# EAGLE library part 6551 (library Ketturi electronics)
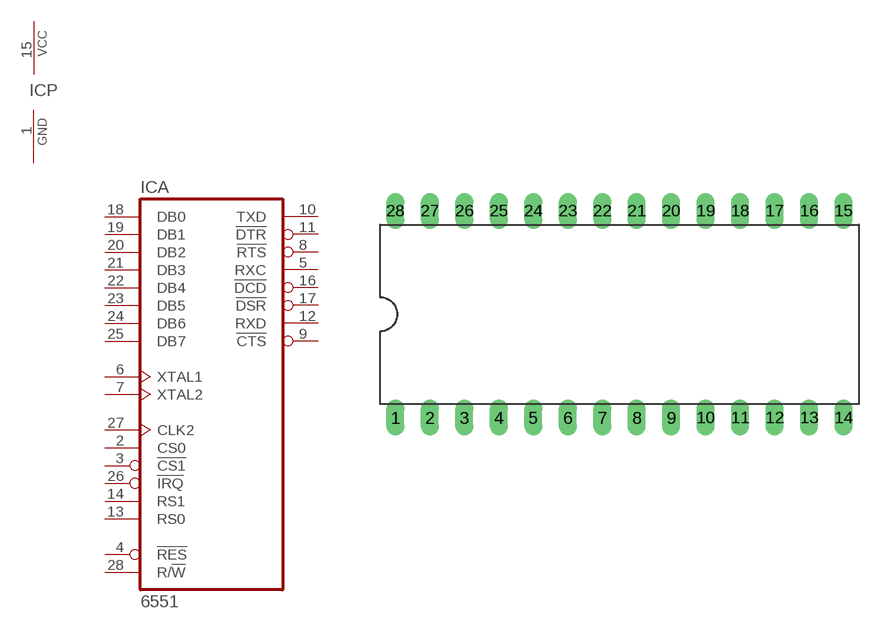
[diagram p14: symbol with the pads of DIL28-6; footprint DIL28-6]

Designator prefix IC; gates A=6551 P=PWRN-1

## 6551DIL28-6  [DIL28-6]
1  P:GND  pwr
2  A:CS0  in
3  A:!CS1  in
4  A:!RES  in
5  A:RXC  out
6  A:XTAL1  in
7  A:XTAL2  in
8  A:!RTS  out
9  A:!CTS  in
10  A:TXD  out
11  A:!DTR  out
12  A:RXD  in
13  A:RS0  in
14  A:RS1  in
15  P:VCC  pwr
16  A:!DCD  in
17  A:!DSR  in
18  A:DB0
19  A:DB1
20  A:DB2
21  A:DB3
22  A:DB4
23  A:DB5
24  A:DB6
25  A:DB7
26  A:!IRQ  out
27  A:CLK2  in
28  A:R/!W  in

## Footprint DIL28-6 (pad centres in mm)
Dual In Line Package 0.6 inch
drill 0.813 long: 1 -16.51,-7.62; 2 -13.97,-7.62; 3 -11.43,-7.62; 4 -8.89,-7.62; 5 -6.35,-7.62; 6 -3.81,-7.62; 7 -1.27,-7.62; 8 1.27,-7.62; 9 3.81,-7.62; 10 6.35,-7.62; 11 8.89,-7.62; 12 11.43,-7.62; 13 13.97,-7.62; 14 16.51,-7.62; 15 16.51,7.62; 16 13.97,7.62; 17 11.43,7.62; 18 8.89,7.62; 19 6.35,7.62; 20 3.81,7.62; 21 1.27,7.62; 22 -1.27,7.62; 23 -3.81,7.62; 24 -6.35,7.62; 25 -8.89,7.62; 26 -11.43,7.62; 27 -13.97,7.62; 28 -16.51,7.62